# Altium footprint library ESP8266.PcbLib: 1 footprints
Each footprint in its own frame and in the unit in brackets; x right, y up, seen from the top. Pads: shape width x height; smd on the part's side, far side on the other; paste and mask are expansions set on the pad; w line width, h text height; cw(c..) or ccw(c..) is an arc to the next point about the centre after c.
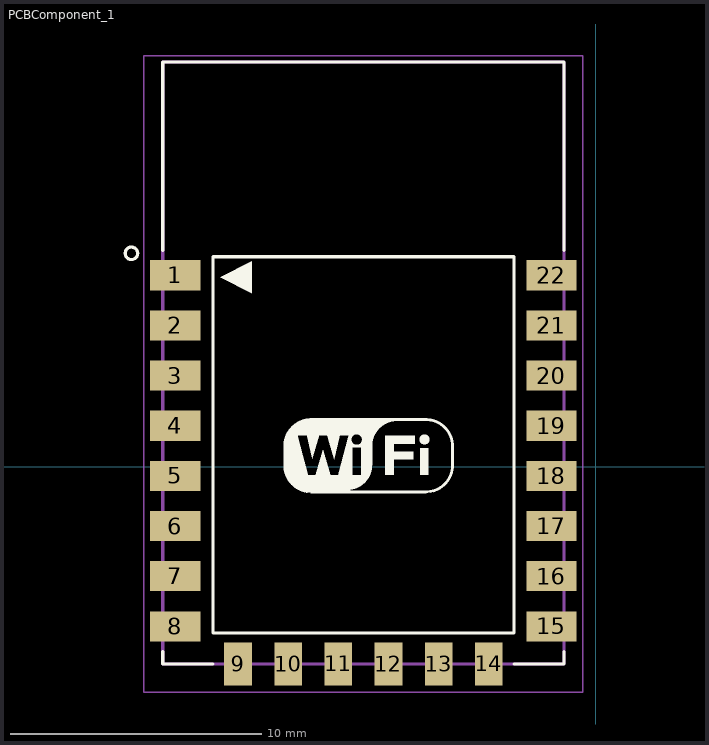
[diagram p0: the footprint, top view; thin cyan lines are the x and y axes]

## PCBComponent_1 [mm]
pads (22):
  rect 2x1.2 smd: 1(-16.771,7.635) 2(-16.771,5.635) 3(-16.771,3.635) 4(-16.771,1.635) 5(-16.771,-0.365) 6(-16.771,-2.365) 7(-16.771,-4.365) 8(-16.771,-6.365) 15(-1.771,-6.365) 16(-1.771,-4.365) 17(-1.771,-2.365) 18(-1.771,-0.365) 19(-1.771,1.635) 20(-1.771,3.635) 21(-1.771,5.635) 22(-1.771,7.635)
  rect 1.1x1.7 smd: 9(-14.271,-7.865) 10(-12.271,-7.865) 11(-10.271,-7.865) 12(-8.271,-7.865) 13(-6.271,-7.865) 14(-4.271,-7.865)
Top Overlay:
  drawing of 17 lines, arcs and shapes, not listed
Mechanical 13:
  lines w0.127: -17.271,-7.865 -1.271,-7.865 -1.271,16.135 -17.271,16.135 -17.271,-7.865
Mechanical 15:
  lines w0.05: -18.021,-8.99 -0.521,-8.99 -0.521,16.385 -18.021,16.385 -18.021,-8.99
3D body "ESP_12_ENew.STEP": height 3.82, standoff -0.05, extent -17.151,-8.001 -1.137,16.03